# Altium schematic symbol library 105034-1001.SchLib: 1 symbol
Pins are listed as number, name and electrical type; pins without a type are passive.

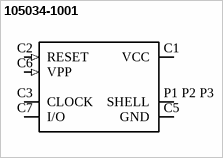
[diagram p0: symbol 105034-1001]

## 105034-1001
designator J?  (value not drawn)
Value: *
footprint MOLEX_105034-1001_105034-1001(Primary)
pins: C1 VCC (power), C2 RESET (in), C3 CLOCK (io), C5 GND (power), C6 VPP (in), C7 I/O (io), P1 P2 P3 SHELL (power)